# Altium integrated library Linear Technology Power Management LDO Linear Regulators.IntLib: 2339 symbols (part 123 of 131)
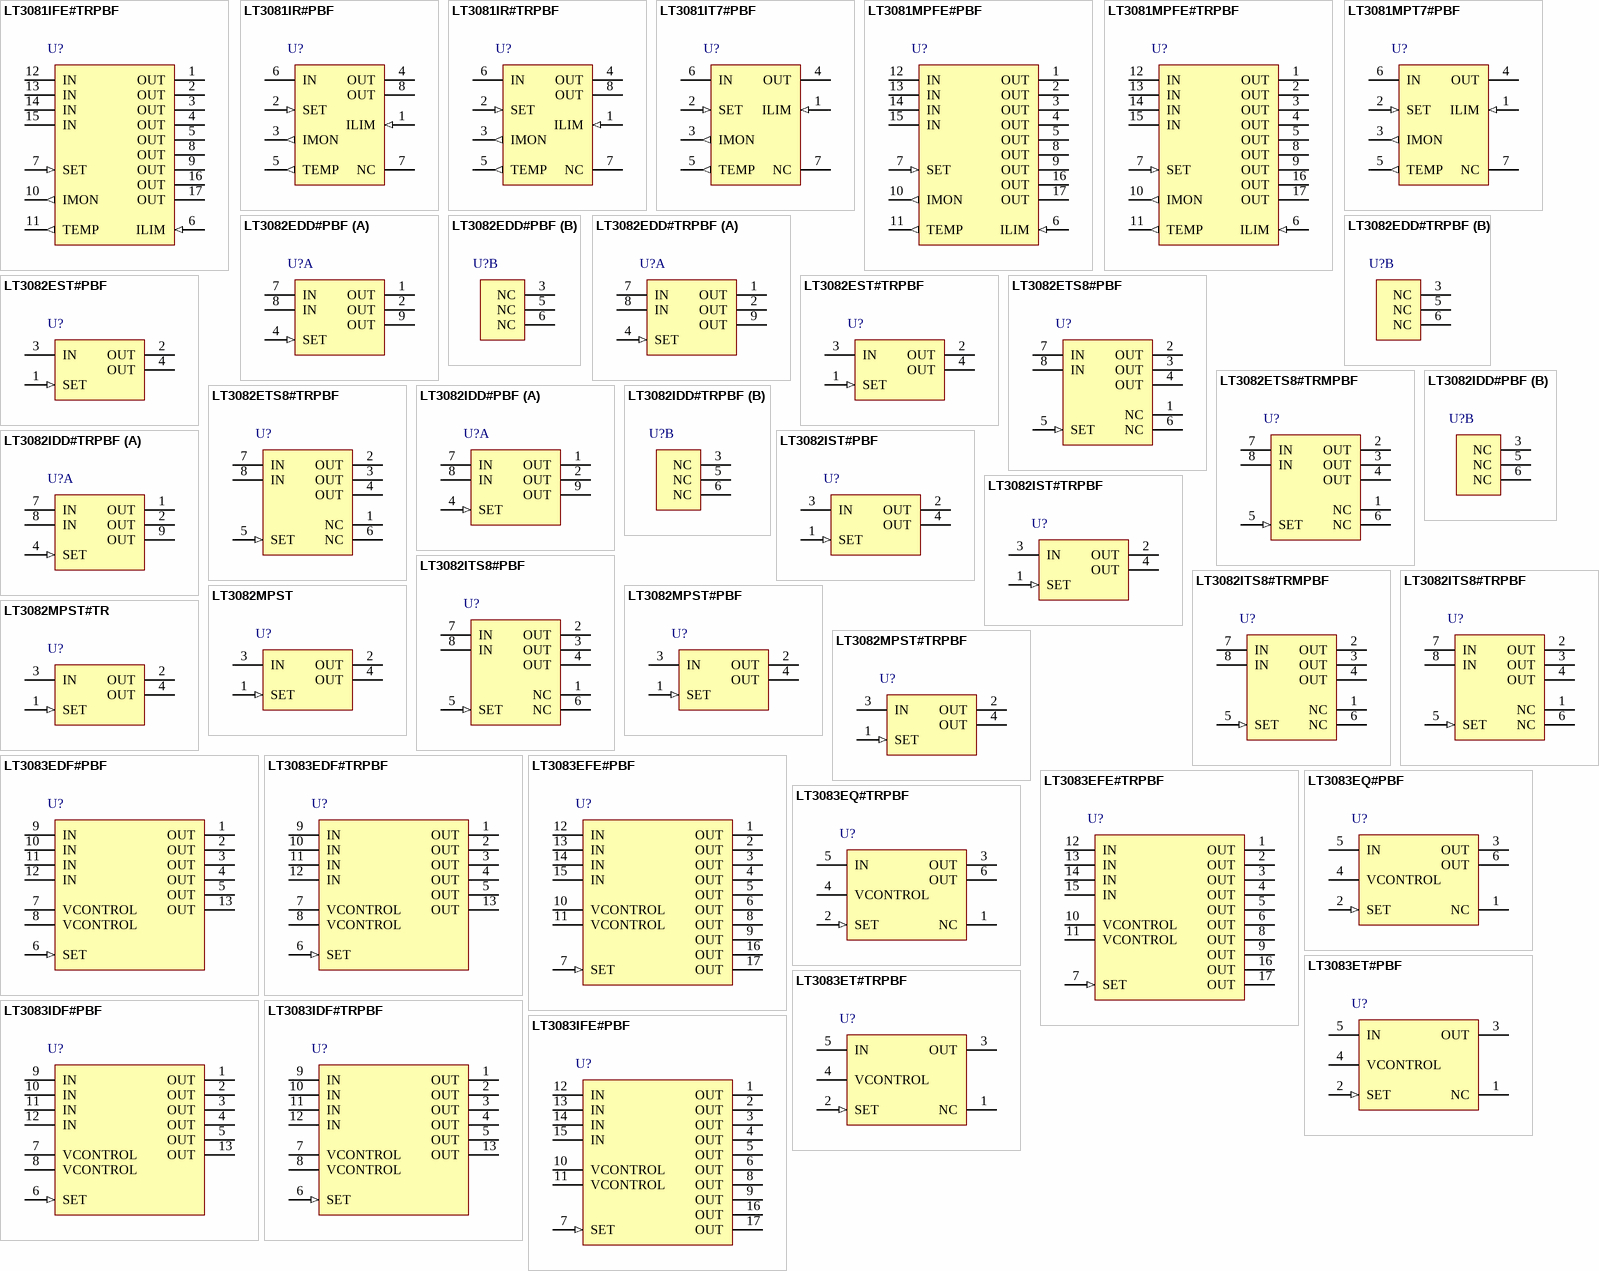
[diagram p191: symbols LT3081IFE#TRPBF to LT3083IFE#PBF]

## LT3082MPST
designator U?
200 mA Single Resistor Low Dropout Linear Regulator, 1.2 to 40 V Vin, Adjustable Vout, 3-pin SOT223 (ST-3), -55 to 125 degC; Manufacturer: Linear Technology; PartNumber: LT3082MPST; Discrete Pass Element: no; Dropout Voltage(V): 1.3; Iout(mA): 200; Isupply(mA): 0.3; Noise(uV): 33; Number of Outputs: 1; Output Voltage: Adj; PSRR(dB): 90; Vin Max(V): 40; Vin Min(V): 1.2; Vout Max(V): 38.5; Vout Min(V): 0; PackageVersion: Jun-10; PackageReference: ST-3; PackageDescription: 3-Pin Plastic SOT-223, 3.505 x 6.505 mm Body, Pitch 2.3 mm; Supplier 1: Newark; Supplier Part Number 1: 72R5808; RoHS: FALSE; Mounting Technology: Surface Mount; ComponentLink1Description: Manufacturer URL; ComponentLink1URL: http://www.linear.com/; ComponentLink2Description: Datasheet; ComponentLink2URL: http://cds.linear.com/docs/en/datasheet/3082f.pdf; ComponentLink3Description: Package Specification; ComponentLink3URL: http://cds.linear.com/docs/en/packaging/SOT_3_05-08-1630.pdf
footprint LT-ST-3-SOT-223_N (SOT223, 4-Leads, Body 6.505x3.505mm, Pitch 2.3mm, IPC Medium Density)
footprint LT-ST-3-SOT-223_L (SOT223, 4-Leads, Body 6.505x3.505mm, Pitch 2.3mm, IPC High Density)
footprint LT-ST-3-SOT-223_M (SOT223, 4-Leads, Body 6.505x3.505mm, Pitch 2.3mm, IPC Low Density)
pins: 1 SET (in) "Set. This pin is the error amplifier's noninverting input and also sets the operating bias point of the circuit. A fixed 10uA current source flows out of this pin. A single external resistor programs VOUT. Output voltag(See Datasheet)", 2 OUT (power) "Output. This is the power output of the device. The LT3082 requires a 0.5mA minimum load current or the output will not regulate.", 3 IN (power) "Input. This pin supplies power to regulate internal circuitry and supply output load current. For the device to operate properly and regulate, the voltage on this pin must be 1.2V to 1.4V above the OUT pin (depending on (See Datasheet)", 4 OUT (power) "Output. This is the power output of the device. The LT3082 requires a 0.5mA minimum load current or the output will not regulate."

## LT3082MPST#PBF
designator U?
200 mA Single Resistor Low Dropout Linear Regulator, 1.2 to 40 V Vin, Adjustable Vout, 3-pin SOT223 (ST-3), -55 to 125 degC, Pb-Free; Manufacturer: Linear Technology; PartNumber: LT3082MPST#PBF; Discrete Pass Element: no; Dropout Voltage(V): 1.3; Iout(mA): 200; Isupply(mA): 0.3; Noise(uV): 33; Number of Outputs: 1; Output Voltage: Adj; PSRR(dB): 90; Vin Max(V): 40; Vin Min(V): 1.2; Vout Max(V): 38.5; Vout Min(V): 0; PackageVersion: Jun-10; PackageReference: ST-3; PackageDescription: 3-Pin Plastic SOT-223, 3.505 x 6.505 mm Body, Pitch 2.3 mm; Supplier 1: Digi-Key; Supplier Part Number 1: LT3082MPST#PBF-ND; Supplier 2: Newark; Supplier Part Number 2: 75R7745; RoHS: TRUE; Mounting Technology: Surface Mount; ComponentLink1Description: Manufacturer URL; ComponentLink1URL: http://www.linear.com/; ComponentLink2Description: Datasheet; ComponentLink2URL: http://cds.linear.com/docs/en/datasheet/3082f.pdf; ComponentLink3Description: Package Specification; ComponentLink3URL: http://cds.linear.com/docs/en/packaging/SOT_3_05-08-1630.pdf
footprint LT-ST-3-SOT-223_N (SOT223, 4-Leads, Body 6.505x3.505mm, Pitch 2.3mm, IPC Medium Density)
footprint LT-ST-3-SOT-223_L (SOT223, 4-Leads, Body 6.505x3.505mm, Pitch 2.3mm, IPC High Density)
footprint LT-ST-3-SOT-223_M (SOT223, 4-Leads, Body 6.505x3.505mm, Pitch 2.3mm, IPC Low Density)
pins: 1 SET (in) "Set. This pin is the error amplifier's noninverting input and also sets the operating bias point of the circuit. A fixed 10uA current source flows out of this pin. A single external resistor programs VOUT. Output voltag(See Datasheet)", 2 OUT (power) "Output. This is the power output of the device. The LT3082 requires a 0.5mA minimum load current or the output will not regulate.", 3 IN (power) "Input. This pin supplies power to regulate internal circuitry and supply output load current. For the device to operate properly and regulate, the voltage on this pin must be 1.2V to 1.4V above the OUT pin (depending on (See Datasheet)", 4 OUT (power) "Output. This is the power output of the device. The LT3082 requires a 0.5mA minimum load current or the output will not regulate."

## LT3082MPST#TR
designator U?
200 mA Single Resistor Low Dropout Linear Regulator, 1.2 to 40 V Vin, Adjustable Vout, 3-pin SOT223 (ST-3), -55 to 125 degC, Tape and Reel; Manufacturer: Linear Technology; PartNumber: LT3082MPST#TR; Discrete Pass Element: no; Dropout Voltage(V): 1.3; Iout(mA): 200; Isupply(mA): 0.3; Noise(uV): 33; Number of Outputs: 1; Output Voltage: Adj; PSRR(dB): 90; Vin Max(V): 40; Vin Min(V): 1.2; Vout Max(V): 38.5; Vout Min(V): 0; PackageVersion: Jun-10; PackageReference: ST-3; PackageDescription: 3-Pin Plastic SOT-223, 3.505 x 6.505 mm Body, Pitch 2.3 mm; Packing: Tape and Reel; RoHS: FALSE; Mounting Technology: Surface Mount; ComponentLink1Description: Manufacturer URL; ComponentLink1URL: http://www.linear.com/; ComponentLink2Description: Datasheet; ComponentLink2URL: http://cds.linear.com/docs/en/datasheet/3082f.pdf; ComponentLink3Description: Package Specification; ComponentLink3URL: http://cds.linear.com/docs/en/packaging/SOT_3_05-08-1630.pdf
footprint LT-ST-3-SOT-223_N (SOT223, 4-Leads, Body 6.505x3.505mm, Pitch 2.3mm, IPC Medium Density)
footprint LT-ST-3-SOT-223_L (SOT223, 4-Leads, Body 6.505x3.505mm, Pitch 2.3mm, IPC High Density)
footprint LT-ST-3-SOT-223_M (SOT223, 4-Leads, Body 6.505x3.505mm, Pitch 2.3mm, IPC Low Density)
pins: 1 SET (in) "Set. This pin is the error amplifier's noninverting input and also sets the operating bias point of the circuit. A fixed 10uA current source flows out of this pin. A single external resistor programs VOUT. Output voltag(See Datasheet)", 2 OUT (power) "Output. This is the power output of the device. The LT3082 requires a 0.5mA minimum load current or the output will not regulate.", 3 IN (power) "Input. This pin supplies power to regulate internal circuitry and supply output load current. For the device to operate properly and regulate, the voltage on this pin must be 1.2V to 1.4V above the OUT pin (depending on (See Datasheet)", 4 OUT (power) "Output. This is the power output of the device. The LT3082 requires a 0.5mA minimum load current or the output will not regulate."

## LT3082MPST#TRPBF
designator U?
200 mA Single Resistor Low Dropout Linear Regulator, 1.2 to 40 V Vin, Adjustable Vout, 3-pin SOT223 (ST-3), -55 to 125 degC, Pb-Free, Tape and Reel; Manufacturer: Linear Technology; PartNumber: LT3082MPST#TRPBF; Discrete Pass Element: no; Dropout Voltage(V): 1.3; Iout(mA): 200; Isupply(mA): 0.3; Noise(uV): 33; Number of Outputs: 1; Output Voltage: Adj; PSRR(dB): 90; Vin Max(V): 40; Vin Min(V): 1.2; Vout Max(V): 38.5; Vout Min(V): 0; PackageVersion: Jun-10; PackageReference: ST-3; PackageDescription: 3-Pin Plastic SOT-223, 3.505 x 6.505 mm Body, Pitch 2.3 mm; Supplier 1: Digi-Key; Supplier Part Number 1: LT3082MPST#TRPBF-ND; Packing: Tape and Reel; RoHS: TRUE; Mounting Technology: Surface Mount; ComponentLink1Description: Manufacturer URL; ComponentLink1URL: http://www.linear.com/; ComponentLink2Description: Datasheet; ComponentLink2URL: http://cds.linear.com/docs/en/datasheet/3082f.pdf; ComponentLink3Description: Package Specification; ComponentLink3URL: http://cds.linear.com/docs/en/packaging/SOT_3_05-08-1630.pdf
footprint LT-ST-3-SOT-223_N (SOT223, 4-Leads, Body 6.505x3.505mm, Pitch 2.3mm, IPC Medium Density)
footprint LT-ST-3-SOT-223_L (SOT223, 4-Leads, Body 6.505x3.505mm, Pitch 2.3mm, IPC High Density)
footprint LT-ST-3-SOT-223_M (SOT223, 4-Leads, Body 6.505x3.505mm, Pitch 2.3mm, IPC Low Density)
pins: 1 SET (in) "Set. This pin is the error amplifier's noninverting input and also sets the operating bias point of the circuit. A fixed 10uA current source flows out of this pin. A single external resistor programs VOUT. Output voltag(See Datasheet)", 2 OUT (power) "Output. This is the power output of the device. The LT3082 requires a 0.5mA minimum load current or the output will not regulate.", 3 IN (power) "Input. This pin supplies power to regulate internal circuitry and supply output load current. For the device to operate properly and regulate, the voltage on this pin must be 1.2V to 1.4V above the OUT pin (depending on (See Datasheet)", 4 OUT (power) "Output. This is the power output of the device. The LT3082 requires a 0.5mA minimum load current or the output will not regulate."

## LT3083EDF#PBF
designator U?
3 A Single Resistor Low Dropout Regulator, 1.2 to 23 V Vin, Adjustable Vout, 12-pin SON (DF-12), -40 to 125 degC, Pb-Free; Manufacturer: Linear Technology; PartNumber: LT3083EDF#PBF; Discrete Pass Element: no; Dropout Voltage(V): 0.31; Iout(mA): 3000; Isupply(mA): 0.35; Noise(uV): 40; Number of Outputs: 1; Output Voltage: Adj; PSRR(dB): 85; Shutdown Current(uA): 0; Vin Max(V): 23; Vin Min(V): 1.2; DatasheetVersion: Rev. A; PackageVersion: Rev. Ø, 06/2010; PackageReference: DF-12; PackageDescription: 12-Pin Plastic DFN, Body 4 x 4 mm, Pitch 0.5 mm; Supplier 1: Digi-Key; Supplier Part Number 1: LT3083EDF#PBF-ND; Supplier 2: Farnell; Supplier Part Number 2: 2295280; Supplier 3: Newark; Supplier Part Number 3: 27T4256; RoHS: TRUE; Vout Max(V): 23; Vout Min(V): 0; Mounting Technology: Surface Mount; Code_JEDEC: MO-220; ComponentLink1Description: Manufacturer URL; ComponentLink1URL: http://www.linear.com/; ComponentLink2Description: Datasheet; ComponentLink2URL: http://cds.linear.com/docs/en/datasheet/3083fa.pdf; ComponentLink3Description: Package Specification; ComponentLink3URL: http://cds.linear.com/docs/Packaging/DFN_12_05-08-1733.pdf
footprint LT-DF-12_V (SON, 12-Leads, Body 4x4mm, Pitch 0.5mm, Thermal Pad 2.65x3.38mm)
pins: 1 OUT (power) "Output. The exposed pad of the DF package (Pin 13) and the FE package (Pin 17) and the Tab of the DD-PAK and TO-220 packages is an electrical connection to OUT. Connect the exposed pad of the DF and FE packages and  the Tab (See Datasheet)", 2 OUT (power) "Output. The exposed pad of the DF package (Pin 13) and the FE package (Pin 17) and the Tab of the DD-PAK and TO-220 packages is an electrical connection to OUT. Connect the exposed pad of the DF and FE packages and  the Tab (See Datasheet)", 3 OUT (power) "Output. The exposed pad of the DF package (Pin 13) and the FE package (Pin 17) and the Tab of the DD-PAK and TO-220 packages is an electrical connection to OUT. Connect the exposed pad of the DF and FE packages and  the Tab (See Datasheet)", 4 OUT (power) "Output. The exposed pad of the DF package (Pin 13) and the FE package (Pin 17) and the Tab of the DD-PAK and TO-220 packages is an electrical connection to OUT. Connect the exposed pad of the DF and FE packages and  the Tab (See Datasheet)", 5 OUT (power) "Output. The exposed pad of the DF package (Pin 13) and the FE package (Pin 17) and the Tab of the DD-PAK and TO-220 packages is an electrical connection to OUT. Connect the exposed pad of the DF and FE packages and  the Tab (See Datasheet)", 6 SET (in) "Set Point. This pin is the non-inverting input to the error amplifier and the regulation set point. A fixed current of 50uA flows out of this  pin through a single external resistor, which programs the output voltage of the (See Datasheet)", 7 VCONTROL (power) "Bias Supply. This is the supply pin for the control circuitry of the device. Minimum input capacitance is 2.2uF (see Input Capacitance and Stability in the Applications Information  section). The current flow into this pin (See Datasheet)", 8 VCONTROL (power) "Bias Supply. This is the supply pin for the control circuitry of the device. Minimum input capacitance is 2.2uF (see Input Capacitance and Stability in the Applications Information  section). The current flow into this pin (See Datasheet)", 9 IN (power) "Power Input. This  is the collector to the power device of the LT3083. The output load current is supplied through this pin. Minimum IN capacitance is 10uF (see Input Capacitance and Stability in Applications Information (See Datasheet)", 10 IN (power) "Power Input. This  is the collector to the power device of the LT3083. The output load current is supplied through this pin. Minimum IN capacitance is 10uF (see Input Capacitance and Stability in Applications Information (See Datasheet)", 11 IN (power) "Power Input. This  is the collector to the power device of the LT3083. The output load current is supplied through this pin. Minimum IN capacitance is 10uF (see Input Capacitance and Stability in Applications Information (See Datasheet)", 12 IN (power) "Power Input. This  is the collector to the power device of the LT3083. The output load current is supplied through this pin. Minimum IN capacitance is 10uF (see Input Capacitance and Stability in Applications Information (See Datasheet)", 13 OUT (power) "Output. The exposed pad of the DF package (Pin 13) and the FE package (Pin 17) and the Tab of the DD-PAK and TO-220 packages is an electrical connection to OUT. Connect the exposed pad of the DF and FE packages and  the Tab (See Datasheet)"

## LT3083EDF#TRPBF
designator U?
3 A Single Resistor Low Dropout Regulator, 1.2 to 23 V Vin, Adjustable Vout, 12-pin SON (DF-12), -40 to 125 degC, Pb-Free, Tape and Reel; Manufacturer: Linear Technology; PartNumber: LT3083EDF#TRPBF; Discrete Pass Element: no; Dropout Voltage(V): 0.31; Iout(mA): 3000; Isupply(mA): 0.35; Noise(uV): 40; Number of Outputs: 1; Output Voltage: Adj; PSRR(dB): 85; Shutdown Current(uA): 0; Vin Max(V): 23; Vin Min(V): 1.2; DatasheetVersion: Rev. A; PackageVersion: Rev. Ø, 06/2010; PackageReference: DF-12; PackageDescription: 12-Pin Plastic DFN, Body 4 x 4 mm, Pitch 0.5 mm; Supplier 1: Digi-Key; Supplier Part Number 1: LT3083EDF#TRPBF-ND; Supplier 2: Newark; Supplier Part Number 2: 27T4257; Packing: Tape and Reel; RoHS: TRUE; Vout Max(V): 23; Vout Min(V): 0; Mounting Technology: Surface Mount; Code_JEDEC: MO-220; ComponentLink1Description: Manufacturer URL; ComponentLink1URL: http://www.linear.com/; ComponentLink2Description: Datasheet; ComponentLink2URL: http://cds.linear.com/docs/en/datasheet/3083fa.pdf; ComponentLink3Description: Package Specification; ComponentLink3URL: http://cds.linear.com/docs/Packaging/DFN_12_05-08-1733.pdf
footprint LT-DF-12_V (SON, 12-Leads, Body 4x4mm, Pitch 0.5mm, Thermal Pad 2.65x3.38mm)
pins: 1 OUT (power) "Output. The exposed pad of the DF package (Pin 13) and the FE package (Pin 17) and the Tab of the DD-PAK and TO-220 packages is an electrical connection to OUT. Connect the exposed pad of the DF and FE packages and  the Tab (See Datasheet)", 2 OUT (power) "Output. The exposed pad of the DF package (Pin 13) and the FE package (Pin 17) and the Tab of the DD-PAK and TO-220 packages is an electrical connection to OUT. Connect the exposed pad of the DF and FE packages and  the Tab (See Datasheet)", 3 OUT (power) "Output. The exposed pad of the DF package (Pin 13) and the FE package (Pin 17) and the Tab of the DD-PAK and TO-220 packages is an electrical connection to OUT. Connect the exposed pad of the DF and FE packages and  the Tab (See Datasheet)", 4 OUT (power) "Output. The exposed pad of the DF package (Pin 13) and the FE package (Pin 17) and the Tab of the DD-PAK and TO-220 packages is an electrical connection to OUT. Connect the exposed pad of the DF and FE packages and  the Tab (See Datasheet)", 5 OUT (power) "Output. The exposed pad of the DF package (Pin 13) and the FE package (Pin 17) and the Tab of the DD-PAK and TO-220 packages is an electrical connection to OUT. Connect the exposed pad of the DF and FE packages and  the Tab (See Datasheet)", 6 SET (in) "Set Point. This pin is the non-inverting input to the error amplifier and the regulation set point. A fixed current of 50uA flows out of this  pin through a single external resistor, which programs the output voltage of the (See Datasheet)", 7 VCONTROL (power) "Bias Supply. This is the supply pin for the control circuitry of the device. Minimum input capacitance is 2.2uF (see Input Capacitance and Stability in the Applications Information  section). The current flow into this pin (See Datasheet)", 8 VCONTROL (power) "Bias Supply. This is the supply pin for the control circuitry of the device. Minimum input capacitance is 2.2uF (see Input Capacitance and Stability in the Applications Information  section). The current flow into this pin (See Datasheet)", 9 IN (power) "Power Input. This  is the collector to the power device of the LT3083. The output load current is supplied through this pin. Minimum IN capacitance is 10uF (see Input Capacitance and Stability in Applications Information (See Datasheet)", 10 IN (power) "Power Input. This  is the collector to the power device of the LT3083. The output load current is supplied through this pin. Minimum IN capacitance is 10uF (see Input Capacitance and Stability in Applications Information (See Datasheet)", 11 IN (power) "Power Input. This  is the collector to the power device of the LT3083. The output load current is supplied through this pin. Minimum IN capacitance is 10uF (see Input Capacitance and Stability in Applications Information (See Datasheet)", 12 IN (power) "Power Input. This  is the collector to the power device of the LT3083. The output load current is supplied through this pin. Minimum IN capacitance is 10uF (see Input Capacitance and Stability in Applications Information (See Datasheet)", 13 OUT (power) "Output. The exposed pad of the DF package (Pin 13) and the FE package (Pin 17) and the Tab of the DD-PAK and TO-220 packages is an electrical connection to OUT. Connect the exposed pad of the DF and FE packages and  the Tab (See Datasheet)"

## LT3083EFE#PBF
designator U?
3 A Single Resistor Low Dropout Regulator, 1.2 to 23 V Vin, Adjustable Vout, 16-pin SOP (FE-16-EPV-BB), -40 to 125 degC, Pb-Free; Manufacturer: Linear Technology; PartNumber: LT3083EFE#PBF; Discrete Pass Element: no; Dropout Voltage(V): 0.31; Iout(mA): 3000; Isupply(mA): 0.35; Noise(uV): 40; Number of Outputs: 1; Output Voltage: Adj; PSRR(dB): 85; Shutdown Current(uA): 0; Vin Max(V): 23; Vin Min(V): 1.2; DatasheetVersion: Rev. A; PackageVersion: Rev. J, 11/2012; PackageReference: FE-16; PackageDescription: 16-Pin Plastic TSSOP, Body 5 x 4.4 mm, Pitch 0.65 mm; Supplier 1: Digi-Key; Supplier Part Number 1: LT3083EFE#PBF-ND; Supplier 2: Farnell; Supplier Part Number 2: 2295281; Supplier 3: Newark; Supplier Part Number 3: 27T4258; RoHS: TRUE; Vout Max(V): 23; Vout Min(V): 0; Mounting Technology: Surface Mount; ComponentLink1Description: Manufacturer URL; ComponentLink1URL: http://www.linear.com/; ComponentLink2Description: Datasheet; ComponentLink2URL: http://cds.linear.com/docs/en/datasheet/3083fa.pdf; ComponentLink3Description: Package Specification; ComponentLink3URL: http://cds.linear.com/docs/en/packaging/05081663__J_FE16(BB).pdf
footprint LT-FE-16-EPV-BB_N (SOP, 16-Leads, Body 5.1x4.5mm, Pitch 0.65mm, Thermal Pad 3.58x2.94mm, IPC Medium Density)
footprint LT-FE-16-EPV-BB_L (SOP, 16-Leads, Body 5.1x4.5mm, Pitch 0.65mm, Thermal Pad 3.58x2.94mm, IPC High Density)
footprint LT-FE-16-EPV-BB_M (SOP, 16-Leads, Body 5.1x4.5mm, Pitch 0.65mm, Thermal Pad 3.58x2.94mm, IPC Low Density)
pins: 1 OUT (power) "Output. The exposed pad of the DF package (Pin 13) and the FE package (Pin 17) and the Tab of the DD-PAK and TO-220 packages is an electrical connection to OUT. Connect the exposed pad of the DF and FE packages and the Tab (See Datasheet)", 2 OUT (power) "Output. The exposed pad of the DF package (Pin 13) and the FE package (Pin 17) and the Tab of the DD-PAK and TO-220 packages is an electrical connection to OUT. Connect the exposed pad of the DF and FE packages and the Tab (See Datasheet)", 3 OUT (power) "Output. The exposed pad of the DF package (Pin 13) and the FE package (Pin 17) and the Tab of the DD-PAK and TO-220 packages is an electrical connection to OUT. Connect the exposed pad of the DF and FE packages and the Tab (See Datasheet)", 4 OUT (power) "Output. The exposed pad of the DF package (Pin 13) and the FE package (Pin 17) and the Tab of the DD-PAK and TO-220 packages is an electrical connection to OUT. Connect the exposed pad of the DF and FE packages and the Tab (See Datasheet)", 5 OUT (power) "Output. The exposed pad of the DF package (Pin 13) and the FE package (Pin 17) and the Tab of the DD-PAK and TO-220 packages is an electrical connection to OUT. Connect the exposed pad of the DF and FE packages and the Tab (See Datasheet)", 6 OUT (power) "Output. The exposed pad of the DF package (Pin 13) and the FE package (Pin 17) and the Tab of the DD-PAK and TO-220 packages is an electrical connection to OUT. Connect the exposed pad of the DF and FE packages and the Tab (See Datasheet)", 7 SET (in) "Set Point. This pin is the non-inverting input to the error amplifier and the regulation set point. A fixed current of 50uA flows out of this pin through a single external resistor, which programs the output voltage of the (See Datasheet)", 8 OUT (power) "Output. The exposed pad of the DF package (Pin 13) and the FE package (Pin 17) and the Tab of the DD-PAK and TO-220 packages is an electrical connection to OUT. Connect the exposed pad of the DF and FE packages and the Tab (See Datasheet)", 9 OUT (power) "Output. The exposed pad of the DF package (Pin 13) and the FE package (Pin 17) and the Tab of the DD-PAK and TO-220 packages is an electrical connection to OUT. Connect the exposed pad of the DF and FE packages and the Tab (See Datasheet)", 10 VCONTROL (power) "Bias Supply. This is the supply pin for the control circuitry of the device. Minimum input capacitance is 2.2uF (see Input Capacitance and Stability in the Applications Information section). The current flow into this pin is (See Datasheet)", 11 VCONTROL (power) "Bias Supply. This is the supply pin for the control circuitry of the device. Minimum input capacitance is 2.2uF (see Input Capacitance and Stability in the Applications Information section). The current flow into this pin is (See Datasheet)", 12 IN (power) "Power Input. This is the collector to the power device of the LT3083. The output load current is supplied through this pin. Minimum IN capacitance is 10uF (see Input Capacitance and Stability in Applications Information (See Datasheet)", 13 IN (power) "Power Input. This is the collector to the power device of the LT3083. The output load current is supplied through this pin. Minimum IN capacitance is 10uF (see Input Capacitance and Stability in Applications Information (See Datasheet)", 14 IN (power) "Power Input. This is the collector to the power device of the LT3083. The output load current is supplied through this pin. Minimum IN capacitance is 10uF (see Input Capacitance and Stability in Applications Information (See Datasheet)", 15 IN (power) "Power Input. This is the collector to the power device of the LT3083. The output load current is supplied through this pin. Minimum IN capacitance is 10uF (see Input Capacitance and Stability in Applications Information (See Datasheet)", 16 OUT (power) "Output. The exposed pad of the DF package (Pin 13) and the FE package (Pin 17) and the Tab of the DD-PAK and TO-220 packages is an electrical connection to OUT. Connect the exposed pad of the DF and FE packages and the Tab (See Datasheet)", 17 OUT (power) "Output. The exposed pad of the DF package (Pin 13) and the FE package (Pin 17) and the Tab of the DD-PAK and TO-220 packages is an electrical connection to OUT. Connect the exposed pad of the DF and FE packages and the Tab (See Datasheet)"

## LT3083EFE#TRPBF
designator U?
3 A Single Resistor Low Dropout Regulator, 1.2 to 23 V Vin, Adjustable Vout, 16-pin SOP (FE-16-EPV-BB), -40 to 125 degC, Pb-Free, Tape and Reel; Manufacturer: Linear Technology; PartNumber: LT3083EFE#TRPBF; Discrete Pass Element: no; Dropout Voltage(V): 0.31; Iout(mA): 3000; Isupply(mA): 0.35; Noise(uV): 40; Number of Outputs: 1; Output Voltage: Adj; PSRR(dB): 85; Shutdown Current(uA): 0; Vin Max(V): 23; Vin Min(V): 1.2; DatasheetVersion: Rev. A; PackageVersion: Rev. J, 11/2012; PackageReference: FE-16; PackageDescription: 16-Pin Plastic TSSOP, Body 5 x 4.4 mm, Pitch 0.65 mm; Supplier 1: Digi-Key; Supplier Part Number 1: LT3083EFE#TRPBF-ND; Packing: Tape and Reel; RoHS: TRUE; Vout Max(V): 23; Vout Min(V): 0; Mounting Technology: Surface Mount; ComponentLink1Description: Manufacturer URL; ComponentLink1URL: http://www.linear.com/; ComponentLink2Description: Datasheet; ComponentLink2URL: http://cds.linear.com/docs/en/datasheet/3083fa.pdf; ComponentLink3Description: Package Specification; ComponentLink3URL: http://cds.linear.com/docs/en/packaging/05081663__J_FE16(BB).pdf
footprint LT-FE-16-EPV-BB_N (SOP, 16-Leads, Body 5.1x4.5mm, Pitch 0.65mm, Thermal Pad 3.58x2.94mm, IPC Medium Density)
footprint LT-FE-16-EPV-BB_L (SOP, 16-Leads, Body 5.1x4.5mm, Pitch 0.65mm, Thermal Pad 3.58x2.94mm, IPC High Density)
footprint LT-FE-16-EPV-BB_M (SOP, 16-Leads, Body 5.1x4.5mm, Pitch 0.65mm, Thermal Pad 3.58x2.94mm, IPC Low Density)
pins: 1 OUT (power) "Output. The exposed pad of the DF package (Pin 13) and the FE package (Pin 17) and the Tab of the DD-PAK and TO-220 packages is an electrical connection to OUT. Connect the exposed pad of the DF and FE packages and the Tab (See Datasheet)", 2 OUT (power) "Output. The exposed pad of the DF package (Pin 13) and the FE package (Pin 17) and the Tab of the DD-PAK and TO-220 packages is an electrical connection to OUT. Connect the exposed pad of the DF and FE packages and the Tab (See Datasheet)", 3 OUT (power) "Output. The exposed pad of the DF package (Pin 13) and the FE package (Pin 17) and the Tab of the DD-PAK and TO-220 packages is an electrical connection to OUT. Connect the exposed pad of the DF and FE packages and the Tab (See Datasheet)", 4 OUT (power) "Output. The exposed pad of the DF package (Pin 13) and the FE package (Pin 17) and the Tab of the DD-PAK and TO-220 packages is an electrical connection to OUT. Connect the exposed pad of the DF and FE packages and the Tab (See Datasheet)", 5 OUT (power) "Output. The exposed pad of the DF package (Pin 13) and the FE package (Pin 17) and the Tab of the DD-PAK and TO-220 packages is an electrical connection to OUT. Connect the exposed pad of the DF and FE packages and the Tab (See Datasheet)", 6 OUT (power) "Output. The exposed pad of the DF package (Pin 13) and the FE package (Pin 17) and the Tab of the DD-PAK and TO-220 packages is an electrical connection to OUT. Connect the exposed pad of the DF and FE packages and the Tab (See Datasheet)", 7 SET (in) "Set Point. This pin is the non-inverting input to the error amplifier and the regulation set point. A fixed current of 50uA flows out of this pin through a single external resistor, which programs the output voltage of the (See Datasheet)", 8 OUT (power) "Output. The exposed pad of the DF package (Pin 13) and the FE package (Pin 17) and the Tab of the DD-PAK and TO-220 packages is an electrical connection to OUT. Connect the exposed pad of the DF and FE packages and the Tab (See Datasheet)", 9 OUT (power) "Output. The exposed pad of the DF package (Pin 13) and the FE package (Pin 17) and the Tab of the DD-PAK and TO-220 packages is an electrical connection to OUT. Connect the exposed pad of the DF and FE packages and the Tab (See Datasheet)", 10 VCONTROL (power) "Bias Supply. This is the supply pin for the control circuitry of the device. Minimum input capacitance is 2.2uF (see Input Capacitance and Stability in the Applications Information section). The current flow into this pin is (See Datasheet)", 11 VCONTROL (power) "Bias Supply. This is the supply pin for the control circuitry of the device. Minimum input capacitance is 2.2uF (see Input Capacitance and Stability in the Applications Information section). The current flow into this pin is (See Datasheet)", 12 IN (power) "Power Input. This is the collector to the power device of the LT3083. The output load current is supplied through this pin. Minimum IN capacitance is 10uF (see Input Capacitance and Stability in Applications Information (See Datasheet)", 13 IN (power) "Power Input. This is the collector to the power device of the LT3083. The output load current is supplied through this pin. Minimum IN capacitance is 10uF (see Input Capacitance and Stability in Applications Information (See Datasheet)", 14 IN (power) "Power Input. This is the collector to the power device of the LT3083. The output load current is supplied through this pin. Minimum IN capacitance is 10uF (see Input Capacitance and Stability in Applications Information (See Datasheet)", 15 IN (power) "Power Input. This is the collector to the power device of the LT3083. The output load current is supplied through this pin. Minimum IN capacitance is 10uF (see Input Capacitance and Stability in Applications Information (See Datasheet)", 16 OUT (power) "Output. The exposed pad of the DF package (Pin 13) and the FE package (Pin 17) and the Tab of the DD-PAK and TO-220 packages is an electrical connection to OUT. Connect the exposed pad of the DF and FE packages and the Tab (See Datasheet)", 17 OUT (power) "Output. The exposed pad of the DF package (Pin 13) and the FE package (Pin 17) and the Tab of the DD-PAK and TO-220 packages is an electrical connection to OUT. Connect the exposed pad of the DF and FE packages and the Tab (See Datasheet)"

## LT3083EQ#PBF
designator U?
3 A Single Resistor Low Dropout Regulator, 1.2 to 23 V Vin, Adjustable Vout, 5-pin DPAK (Q-5), -40 to 125 degC, Pb-Free; Manufacturer: Linear Technology; PartNumber: LT3083EQ#PBF; Discrete Pass Element: no; Dropout Voltage(V): 0.31; Iout(mA): 3000; Isupply(mA): 0.35; Noise(uV): 40; Number of Outputs: 1; Output Voltage: Adj; PSRR(dB): 85; Shutdown Current(uA): 0; Vin Max(V): 23; Vin Min(V): 1.2; DatasheetVersion: Rev. A; PackageVersion: Rev. F, 09/2011; PackageReference: Q-5; PackageDescription: 5-Pin Plastic DD Pak, Body 10.2235 x 8.89 mm, Pitch 1.702 mm; Supplier 1: Digi-Key; Supplier Part Number 1: LT3083EQ#PBF-ND; Supplier 2: Newark; Supplier Part Number 2: 27T4260; RoHS: TRUE; Vout Max(V): 23; Vout Min(V): 0; Mounting Technology: Surface Mount; ComponentLink1Description: Manufacturer URL; ComponentLink1URL: http://www.linear.com/; ComponentLink2Description: Datasheet; ComponentLink2URL: http://cds.linear.com/docs/en/datasheet/3083fa.pdf; ComponentLink3Description: Package Specification; ComponentLink3URL: http://cds.linear.com/docs/en/packaging/Q%20DD5%2005-08-1461%20Rev%20F.pdf
footprint LT-Q-5_N (DPAK, 5-Leads, Body 10.22x8.89mm, Pitch 1.702mm, IPC Medium Density)
footprint LT-Q-5_L (DPAK, 5-Leads, Body 10.22x8.89mm, Pitch 1.702mm, IPC High Density)
footprint LT-Q-5_M (DPAK, 5-Leads, Body 10.22x8.89mm, Pitch 1.702mm, IPC Low Density)
pins: 1 NC "No Connection. No Connect pins have no connection to internal circuitry and may be tied to VIN, VCONTROL, VOUT, GND, or floated.", 2 SET (in) "Set Point. This pin is the non-inverting input to the error amplifier and the regulation set point. A fixed current of 50uA flows out of this pin through a single external resistor, which programs the output voltage of the (See Datasheet)", 3 OUT (power) "Output. The exposed pad of the DF package (Pin 13) and the FE package (Pin 17) and the Tab of the DD-PAK and TO-220 packages is an electrical connection to OUT. Connect the exposed pad of the DF and FE packages and the Tab (See Datasheet)", 4 VCONTROL (power) "Bias Supply. This is the supply pin for the control circuitry of the device. Minimum input capacitance is 2.2uF (see Input Capacitance and Stability in the Applications Information section). The current flow into this pin is (See Datasheet)", 5 IN (power) "Power Input. This is the collector to the power device of the LT3083. The output load current is supplied through this pin. Minimum IN capacitance is 10uF (see Input Capacitance and Stability in Applications Information (See Datasheet)", 6 OUT (power) "TAB IS OUT."

## LT3083EQ#TRPBF
designator U?
3 A Single Resistor Low Dropout Regulator, 1.2 to 23 V Vin, Adjustable Vout, 5-pin DPAK (Q-5), -40 to 125 degC, Pb-Free, Tape and Reel; Manufacturer: Linear Technology; PartNumber: LT3083EQ#TRPBF; Discrete Pass Element: no; Dropout Voltage(V): 0.31; Iout(mA): 3000; Isupply(mA): 0.35; Noise(uV): 40; Number of Outputs: 1; Output Voltage: Adj; PSRR(dB): 85; Shutdown Current(uA): 0; Vin Max(V): 23; Vin Min(V): 1.2; DatasheetVersion: Rev. A; PackageVersion: Rev. F, 09/2011; PackageReference: Q-5; PackageDescription: 5-Pin Plastic DD Pak, Body 10.2235 x 8.89 mm, Pitch 1.702 mm; Supplier 1: Digi-Key; Supplier Part Number 1: LT3083EQ#TRPBF-ND; Supplier 2: Newark; Supplier Part Number 2: 27T4261; Packing: Tape and Reel; RoHS: TRUE; Vout Max(V): 23; Vout Min(V): 0; Mounting Technology: Surface Mount; ComponentLink1Description: Manufacturer URL; ComponentLink1URL: http://www.linear.com/; ComponentLink2Description: Datasheet; ComponentLink2URL: http://cds.linear.com/docs/en/datasheet/3083fa.pdf; ComponentLink3Description: Package Specification; ComponentLink3URL: http://cds.linear.com/docs/en/packaging/Q%20DD5%2005-08-1461%20Rev%20F.pdf
footprint LT-Q-5_N (DPAK, 5-Leads, Body 10.22x8.89mm, Pitch 1.702mm, IPC Medium Density)
footprint LT-Q-5_L (DPAK, 5-Leads, Body 10.22x8.89mm, Pitch 1.702mm, IPC High Density)
footprint LT-Q-5_M (DPAK, 5-Leads, Body 10.22x8.89mm, Pitch 1.702mm, IPC Low Density)
pins: 1 NC "No Connection. No Connect pins have no connection to internal circuitry and may be tied to VIN, VCONTROL, VOUT, GND, or floated.", 2 SET (in) "Set Point. This pin is the non-inverting input to the error amplifier and the regulation set point. A fixed current of 50uA flows out of this pin through a single external resistor, which programs the output voltage of the (See Datasheet)", 3 OUT (power) "Output. The exposed pad of the DF package (Pin 13) and the FE package (Pin 17) and the Tab of the DD-PAK and TO-220 packages is an electrical connection to OUT. Connect the exposed pad of the DF and FE packages and the Tab (See Datasheet)", 4 VCONTROL (power) "Bias Supply. This is the supply pin for the control circuitry of the device. Minimum input capacitance is 2.2uF (see Input Capacitance and Stability in the Applications Information section). The current flow into this pin is (See Datasheet)", 5 IN (power) "Power Input. This is the collector to the power device of the LT3083. The output load current is supplied through this pin. Minimum IN capacitance is 10uF (see Input Capacitance and Stability in Applications Information (See Datasheet)", 6 OUT (power) "TAB IS OUT."

## LT3083ET#PBF
designator U?
3 A Single Resistor Low Dropout Regulator, 1.2 to 23 V Vin, Adjustable Vout, 5-pin FM (T-5), -40 to 125 degC, Pb-Free; Manufacturer: Linear Technology; PartNumber: LT3083ET#PBF; Discrete Pass Element: no; Dropout Voltage(V): 0.31; Iout(mA): 3000; Isupply(mA): 0.35; Noise(uV): 40; Number of Outputs: 1; Output Voltage: Adj; PSRR(dB): 85; Shutdown Current(uA): 0; Vin Max(V): 23; Vin Min(V): 1.2; DatasheetVersion: Rev. A; PackageVersion: Aug-10; PackageReference: T-5; PackageDescription: 5-Pin Plastic TO-220 (Standard), Body 10.224 x 8.89 mm, Pitch 1.7 mm; Supplier 1: Digi-Key; Supplier Part Number 1: LT3083ET#PBF-ND; Supplier 2: Newark; Supplier Part Number 2: 27T4262; RoHS: TRUE; Vout Max(V): 23; Vout Min(V): 0; Mounting Technology: Through Hole; ComponentLink1Description: Manufacturer URL; ComponentLink1URL: http://www.linear.com/; ComponentLink2Description: Datasheet; ComponentLink2URL: http://cds.linear.com/docs/en/datasheet/3083fa.pdf; ComponentLink3Description: Package Specification; ComponentLink3URL: http://cds.linear.com/docs/en/packaging/TO-220_5_05-08-1421.pdf
footprint LT-T-5-S (FM, 5-Leads, Body 10.2235x4.3815mm, Pitch 1.7mm)
pins: 1 NC "No Connection. No Connect pins have no connection to internal circuitry and may be tied to VIN, VCONTROL, VOUT, GND, or floated.", 2 SET (in) "Set Point. This pin is the non-inverting input to the error amplifier and the regulation set point. A fixed current of 50uA flows out of this  pin through a single external resistor, which programs the output voltage of the (See Datasheet)", 3 OUT (power) "Output. The exposed pad of the DF package (Pin 13) and the FE package (Pin 17) and the Tab of the DD-PAK and TO-220 packages is an electrical connection to OUT. Connect the exposed pad of the DF and FE packages and the Tab (See Datasheet)", 4 VCONTROL (power) "Bias Supply. This is the supply pin for the control circuitry of the device. Minimum input capacitance is 2.2uF (see Input Capacitance and Stability in the Applications Information section). The current flow into this pin is (See Datasheet)", 5 IN (power) "Power Input. This is the collector to the power device of the LT3083. The output load current is supplied through this pin. Minimum IN capacitance is 10uF (see Input Capacitance and Stability in Applications Information (See Datasheet)"

## LT3083ET#TRPBF
designator U?
3 A Single Resistor Low Dropout Regulator, 1.2 to 23 V Vin, Adjustable Vout, 5-pin FM (T-5), -40 to 125 degC, Pb-Free, Tape and Reel; Manufacturer: Linear Technology; PartNumber: LT3083ET#TRPBF; Discrete Pass Element: no; Dropout Voltage(V): 0.31; Iout(mA): 3000; Isupply(mA): 0.35; Noise(uV): 40; Number of Outputs: 1; Output Voltage: Adj; PSRR(dB): 85; Shutdown Current(uA): 0; Vin Max(V): 23; Vin Min(V): 1.2; DatasheetVersion: Rev. A; PackageVersion: Aug-10; PackageReference: T-5; PackageDescription: 5-Pin Plastic TO-220 (Standard), Body 10.224 x 8.89 mm, Pitch 1.7 mm; Supplier 1: Digi-Key; Supplier Part Number 1: LT3083ET#TRPBF-ND; Packing: Tape and Reel; RoHS: TRUE; Vout Max(V): 23; Vout Min(V): 0; Mounting Technology: Through Hole; ComponentLink1Description: Manufacturer URL; ComponentLink1URL: http://www.linear.com/; ComponentLink2Description: Datasheet; ComponentLink2URL: http://cds.linear.com/docs/en/datasheet/3083fa.pdf; ComponentLink3Description: Package Specification; ComponentLink3URL: http://cds.linear.com/docs/en/packaging/TO-220_5_05-08-1421.pdf
footprint LT-T-5-S (FM, 5-Leads, Body 10.2235x4.3815mm, Pitch 1.7mm)
pins: 1 NC "No Connection. No Connect pins have no connection to internal circuitry and may be tied to VIN, VCONTROL, VOUT, GND, or floated.", 2 SET (in) "Set Point. This pin is the non-inverting input to the error amplifier and the regulation set point. A fixed current of 50uA flows out of this  pin through a single external resistor, which programs the output voltage of the (See Datasheet)", 3 OUT (power) "Output. The exposed pad of the DF package (Pin 13) and the FE package (Pin 17) and the Tab of the DD-PAK and TO-220 packages is an electrical connection to OUT. Connect the exposed pad of the DF and FE packages and the Tab (See Datasheet)", 4 VCONTROL (power) "Bias Supply. This is the supply pin for the control circuitry of the device. Minimum input capacitance is 2.2uF (see Input Capacitance and Stability in the Applications Information section). The current flow into this pin is (See Datasheet)", 5 IN (power) "Power Input. This is the collector to the power device of the LT3083. The output load current is supplied through this pin. Minimum IN capacitance is 10uF (see Input Capacitance and Stability in Applications Information (See Datasheet)"

## LT3083IDF#PBF
designator U?
3 A Single Resistor Low Dropout Regulator, 1.2 to 23 V Vin, Adjustable Vout, 12-pin SON (DF-12), -40 to 125 degC, Pb-Free; Manufacturer: Linear Technology; PartNumber: LT3083IDF#PBF; Discrete Pass Element: no; Dropout Voltage(V): 0.31; Iout(mA): 3000; Isupply(mA): 0.35; Noise(uV): 40; Number of Outputs: 1; Output Voltage: Adj; PSRR(dB): 85; Shutdown Current(uA): 0; Vin Max(V): 23; Vin Min(V): 1.2; DatasheetVersion: Rev. A; PackageVersion: Rev. Ø, 06/2010; PackageReference: DF-12; PackageDescription: 12-Pin Plastic DFN, Body 4 x 4 mm, Pitch 0.5 mm; Supplier 1: Digi-Key; Supplier Part Number 1: LT3083IDF#PBF-ND; Supplier 2: Farnell; Supplier Part Number 2: 2295282; Supplier 3: Newark; Supplier Part Number 3: 27T4264; RoHS: TRUE; Vout Max(V): 23; Vout Min(V): 0; Mounting Technology: Surface Mount; Code_JEDEC: MO-220; ComponentLink1Description: Manufacturer URL; ComponentLink1URL: http://www.linear.com/; ComponentLink2Description: Datasheet; ComponentLink2URL: http://cds.linear.com/docs/en/datasheet/3083fa.pdf; ComponentLink3Description: Package Specification; ComponentLink3URL: http://cds.linear.com/docs/Packaging/DFN_12_05-08-1733.pdf
footprint LT-DF-12_V (SON, 12-Leads, Body 4x4mm, Pitch 0.5mm, Thermal Pad 2.65x3.38mm)
pins: 1 OUT (power) "Output. The exposed pad of the DF package (Pin 13) and the FE package (Pin 17) and the Tab of the DD-PAK and TO-220 packages is an electrical connection to OUT. Connect the exposed pad of the DF and FE packages and  the Tab (See Datasheet)", 2 OUT (power) "Output. The exposed pad of the DF package (Pin 13) and the FE package (Pin 17) and the Tab of the DD-PAK and TO-220 packages is an electrical connection to OUT. Connect the exposed pad of the DF and FE packages and  the Tab (See Datasheet)", 3 OUT (power) "Output. The exposed pad of the DF package (Pin 13) and the FE package (Pin 17) and the Tab of the DD-PAK and TO-220 packages is an electrical connection to OUT. Connect the exposed pad of the DF and FE packages and  the Tab (See Datasheet)", 4 OUT (power) "Output. The exposed pad of the DF package (Pin 13) and the FE package (Pin 17) and the Tab of the DD-PAK and TO-220 packages is an electrical connection to OUT. Connect the exposed pad of the DF and FE packages and  the Tab (See Datasheet)", 5 OUT (power) "Output. The exposed pad of the DF package (Pin 13) and the FE package (Pin 17) and the Tab of the DD-PAK and TO-220 packages is an electrical connection to OUT. Connect the exposed pad of the DF and FE packages and  the Tab (See Datasheet)", 6 SET (in) "Set Point. This pin is the non-inverting input to the error amplifier and the regulation set point. A fixed current of 50uA flows out of this  pin through a single external resistor, which programs the output voltage of the (See Datasheet)", 7 VCONTROL (power) "Bias Supply. This is the supply pin for the control circuitry of the device. Minimum input capacitance is 2.2uF (see Input Capacitance and Stability in the Applications Information  section). The current flow into this pin (See Datasheet)", 8 VCONTROL (power) "Bias Supply. This is the supply pin for the control circuitry of the device. Minimum input capacitance is 2.2uF (see Input Capacitance and Stability in the Applications Information  section). The current flow into this pin (See Datasheet)", 9 IN (power) "Power Input. This  is the collector to the power device of the LT3083. The output load current is supplied through this pin. Minimum IN capacitance is 10uF (see Input Capacitance and Stability in Applications Information (See Datasheet)", 10 IN (power) "Power Input. This  is the collector to the power device of the LT3083. The output load current is supplied through this pin. Minimum IN capacitance is 10uF (see Input Capacitance and Stability in Applications Information (See Datasheet)", 11 IN (power) "Power Input. This  is the collector to the power device of the LT3083. The output load current is supplied through this pin. Minimum IN capacitance is 10uF (see Input Capacitance and Stability in Applications Information (See Datasheet)", 12 IN (power) "Power Input. This  is the collector to the power device of the LT3083. The output load current is supplied through this pin. Minimum IN capacitance is 10uF (see Input Capacitance and Stability in Applications Information (See Datasheet)", 13 OUT (power) "Output. The exposed pad of the DF package (Pin 13) and the FE package (Pin 17) and the Tab of the DD-PAK and TO-220 packages is an electrical connection to OUT. Connect the exposed pad of the DF and FE packages and  the Tab (See Datasheet)"

## LT3083IDF#TRPBF
designator U?
3 A Single Resistor Low Dropout Regulator, 1.2 to 23 V Vin, Adjustable Vout, 12-pin SON (DF-12), -40 to 125 degC, Pb-Free, Tape and Reel; Manufacturer: Linear Technology; PartNumber: LT3083IDF#TRPBF; Discrete Pass Element: no; Dropout Voltage(V): 0.31; Iout(mA): 3000; Isupply(mA): 0.35; Noise(uV): 40; Number of Outputs: 1; Output Voltage: Adj; PSRR(dB): 85; Shutdown Current(uA): 0; Vin Max(V): 23; Vin Min(V): 1.2; DatasheetVersion: Rev. A; PackageVersion: Rev. Ø, 06/2010; PackageReference: DF-12; PackageDescription: 12-Pin Plastic DFN, Body 4 x 4 mm, Pitch 0.5 mm; Supplier 1: Digi-Key; Supplier Part Number 1: LT3083IDF#TRPBF-ND; Packing: Tape and Reel; RoHS: TRUE; Vout Max(V): 23; Vout Min(V): 0; Mounting Technology: Surface Mount; Code_JEDEC: MO-220; ComponentLink1Description: Manufacturer URL; ComponentLink1URL: http://www.linear.com/; ComponentLink2Description: Datasheet; ComponentLink2URL: http://cds.linear.com/docs/en/datasheet/3083fa.pdf; ComponentLink3Description: Package Specification; ComponentLink3URL: http://cds.linear.com/docs/Packaging/DFN_12_05-08-1733.pdf
footprint LT-DF-12_V (SON, 12-Leads, Body 4x4mm, Pitch 0.5mm, Thermal Pad 2.65x3.38mm)
pins: 1 OUT (power) "Output. The exposed pad of the DF package (Pin 13) and the FE package (Pin 17) and the Tab of the DD-PAK and TO-220 packages is an electrical connection to OUT. Connect the exposed pad of the DF and FE packages and  the Tab (See Datasheet)", 2 OUT (power) "Output. The exposed pad of the DF package (Pin 13) and the FE package (Pin 17) and the Tab of the DD-PAK and TO-220 packages is an electrical connection to OUT. Connect the exposed pad of the DF and FE packages and  the Tab (See Datasheet)", 3 OUT (power) "Output. The exposed pad of the DF package (Pin 13) and the FE package (Pin 17) and the Tab of the DD-PAK and TO-220 packages is an electrical connection to OUT. Connect the exposed pad of the DF and FE packages and  the Tab (See Datasheet)", 4 OUT (power) "Output. The exposed pad of the DF package (Pin 13) and the FE package (Pin 17) and the Tab of the DD-PAK and TO-220 packages is an electrical connection to OUT. Connect the exposed pad of the DF and FE packages and  the Tab (See Datasheet)", 5 OUT (power) "Output. The exposed pad of the DF package (Pin 13) and the FE package (Pin 17) and the Tab of the DD-PAK and TO-220 packages is an electrical connection to OUT. Connect the exposed pad of the DF and FE packages and  the Tab (See Datasheet)", 6 SET (in) "Set Point. This pin is the non-inverting input to the error amplifier and the regulation set point. A fixed current of 50uA flows out of this  pin through a single external resistor, which programs the output voltage of the (See Datasheet)", 7 VCONTROL (power) "Bias Supply. This is the supply pin for the control circuitry of the device. Minimum input capacitance is 2.2uF (see Input Capacitance and Stability in the Applications Information  section). The current flow into this pin (See Datasheet)", 8 VCONTROL (power) "Bias Supply. This is the supply pin for the control circuitry of the device. Minimum input capacitance is 2.2uF (see Input Capacitance and Stability in the Applications Information  section). The current flow into this pin (See Datasheet)", 9 IN (power) "Power Input. This  is the collector to the power device of the LT3083. The output load current is supplied through this pin. Minimum IN capacitance is 10uF (see Input Capacitance and Stability in Applications Information (See Datasheet)", 10 IN (power) "Power Input. This  is the collector to the power device of the LT3083. The output load current is supplied through this pin. Minimum IN capacitance is 10uF (see Input Capacitance and Stability in Applications Information (See Datasheet)", 11 IN (power) "Power Input. This  is the collector to the power device of the LT3083. The output load current is supplied through this pin. Minimum IN capacitance is 10uF (see Input Capacitance and Stability in Applications Information (See Datasheet)", 12 IN (power) "Power Input. This  is the collector to the power device of the LT3083. The output load current is supplied through this pin. Minimum IN capacitance is 10uF (see Input Capacitance and Stability in Applications Information (See Datasheet)", 13 OUT (power) "Output. The exposed pad of the DF package (Pin 13) and the FE package (Pin 17) and the Tab of the DD-PAK and TO-220 packages is an electrical connection to OUT. Connect the exposed pad of the DF and FE packages and  the Tab (See Datasheet)"